# EAGLE library part Q_ATTINY1634 (library MRDT-2014-All)
ATtiny1634 12Mhz 16KB
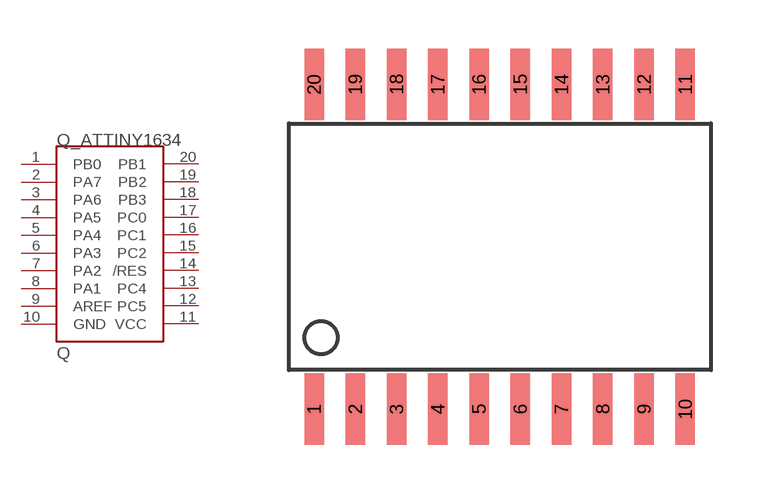
[diagram p24: symbol with the pads of SOIC20; footprint SOIC20]

Designator prefix Q

## Q_ATTINY1634  [SOIC20]
1  PB0
2  PA7
3  PA6
4  PA5
5  PA4
6  PA3
7  PA2
8  PA1
9  AREF
10  GND
11  VCC
12  PC5
13  PC4
14  /RES
15  PC2
16  PC1
17  PC0
18  PB3
19  PB2
20  PB1

## Footprint SOIC20 (pad centres in mm)
smd 0.6 x 2.2: 1 -5.715,-5; 2 -4.445,-5; 3 -3.175,-5; 4 -1.905,-5; 5 -0.635,-5; 6 0.635,-5; 7 1.905,-5; 8 3.175,-5; 9 4.445,-5; 10 5.715,-5; 11 5.715,5; 12 4.445,5; 13 3.175,5; 14 1.905,5; 15 0.635,5; 16 -0.635,5; 17 -1.905,5; 18 -3.175,5; 19 -4.445,5; 20 -5.715,5